# Altium schematic symbol library cstce8m00g520000r0.SchLib: 1 symbol
Pins are listed as number, name and electrical type; pins without a type are passive.

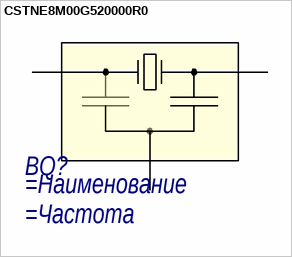
[diagram p0: symbol CSTNE8M00G520000R0]

## CSTNE8M00G520000R0
designator BQ?
=Описание; Частотa: =Частота
pins: 1, 2, 3